# EAGLE library part DPAD (library parts)
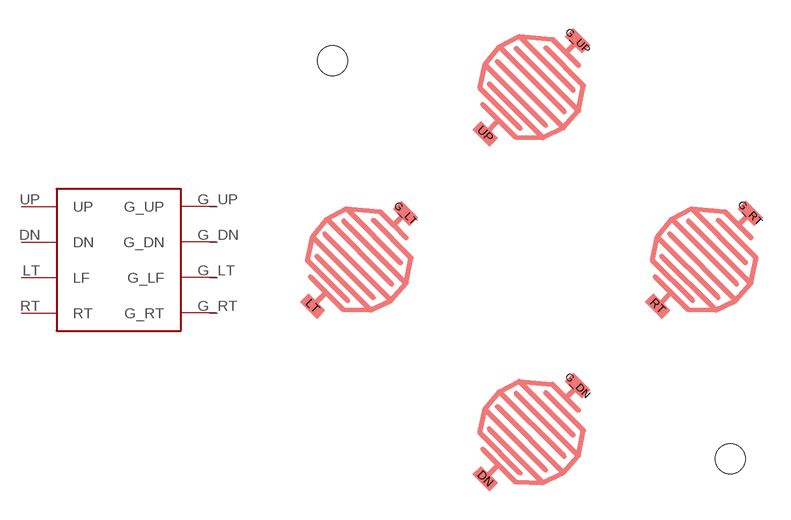
[diagram p0: symbol with the pads of DPAD; footprint DPAD]

Designator prefix -

## DPADGAMEBOY_CLASSIC_DPAD  [DPAD]
DN  DN
G_DN  G_DN
G_LT  G_LF
G_RT  G_RT
G_UP  G_UP
LT  LF
RT  RT
UP  UP

## Footprint DPAD (pad centres in mm)
smd 1.27 x 0.635 rotated 135: DN -2.468,-11.674; G_DN 2.468,-6.71; G_RT 11.66,2.482; G_UP 2.468,11.674; LT -11.66,-2.482; RT 6.725,-2.482; UP -2.468,6.71
smd 1.27 x 0.635 rotated 315: G_LT -6.71,2.468
hole 1.6 at -10.607,10.607
hole 1.6 at 10.607,-10.607